# Altium schematic symbol library Transistor_FET.SchLib: 598 symbols (part 6 of 6)
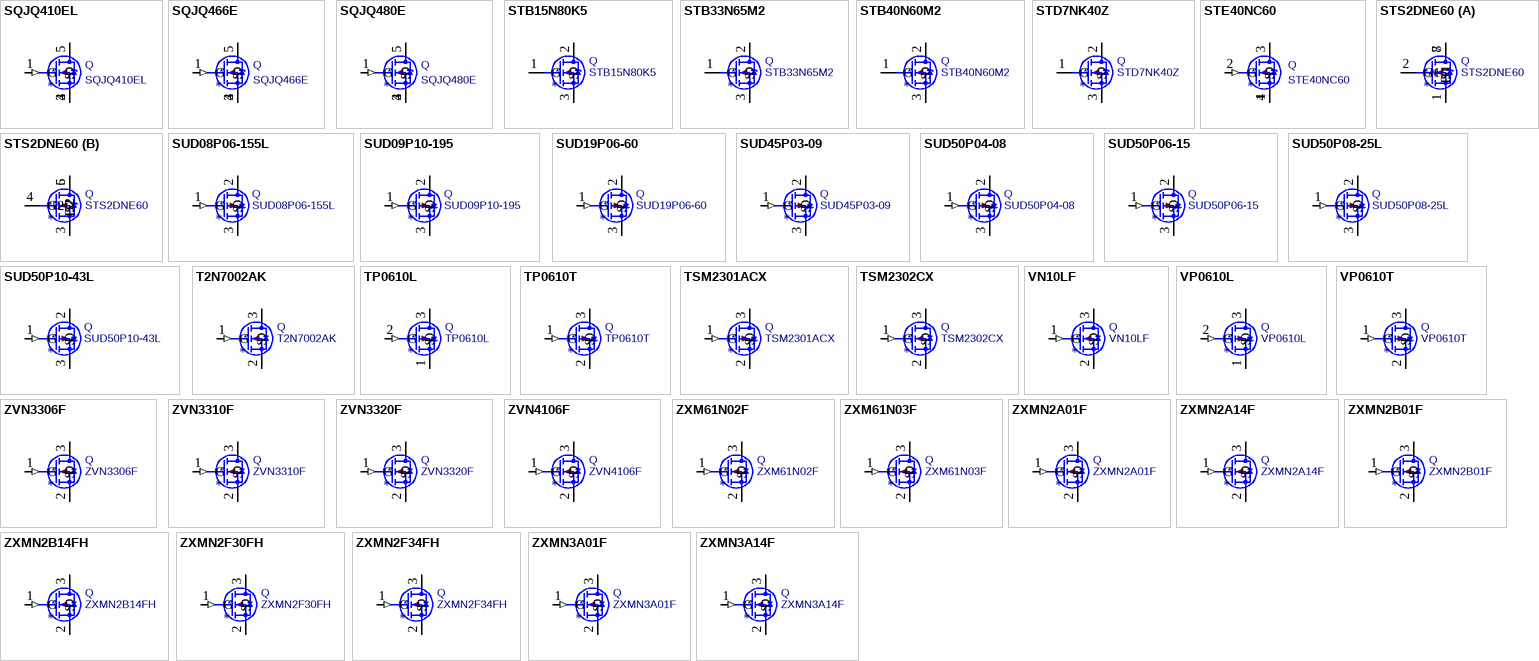
[diagram p21: symbols SQJQ410EL to ZXMN3A14F]

## SUD50P10-43L
designator *  value SUD50P10-43L  Reference: Q
-37A Id, -100V Vds, TrenchFET P-Channel Power MOSFET, 43mOhm Ron, 160nC Qg, -55 to 150 °C, TO-252-2; ki_fp_filters: TO?252*; Footprint: Package_TO_SOT_SMD:TO-252-2; Datasheet: https://www.vishay.com/docs/62504/sud50p10-43l-ge3.pdf; Description_: -37A Id, -100V Vds, TrenchFET P-Channel Power MOSFET, 43mOhm Ron, 160nC Qg, -55 to 150 °C, TO-252-2; ki_keywords: TrenchFET P-Channel Power MOSFET
pins: 1 G (in), 2 D, 3 S

## T2N7002AK
designator *  value T2N7002AK  Reference: Q
60V Vds, 0.2A Id, N-Channel MOSFET, SOT-23; ki_fp_filters: SOT?23*; Footprint: Package_TO_SOT_SMD:SOT-23; Datasheet: https://toshiba.semicon-storage.com/info/docget.jsp?did=29712&prodName=T2N7002AK; Description_: 60V Vds, 0.2A Id, N-Channel MOSFET, SOT-23; ki_keywords: N-Channel MOSFET
pins: 1 G (in), 2 S, 3 D

## TP0610L
designator *  value TP0610L  Reference: Q
-0.18A Id, -60V Vds, P-Channel MOSFET, TO-92; ki_fp_filters: TO?92L*; Footprint: Package_TO_SOT_THT:TO-92L_Inline; Datasheet: http://www.vishay.com/docs/70209/70209.pdf; Description_: -0.18A Id, -60V Vds, P-Channel MOSFET, TO-92; ki_keywords: P-Channel MOSFET
pins: 1 S, 2 G (in), 3 D

## TP0610T
designator *  value TP0610T  Reference: Q
-0.18A Id, -60V Vds, P-Channel MOSFET, SOT-23; ki_fp_filters: SOT?23*; Footprint: Package_TO_SOT_SMD:SOT-23; Datasheet: http://www.vishay.com/docs/70209/70209.pdf; Description_: -0.18A Id, -60V Vds, P-Channel MOSFET, SOT-23; ki_keywords: P-Channel MOSFET
pins: 1 G (in), 2 S, 3 D

## TSM2301ACX
designator *  value TSM2301ACX  Reference: Q
-2.8A Id, -20V Vds, P-Channel MOSFET, SOT-23; ki_fp_filters: SOT?23*; Footprint: Package_TO_SOT_SMD:SOT-23; Datasheet: https://services.taiwansemi.com/storage/resources/datasheet/TSM2301A_C15.pdf; Description_: -2.8A Id, -20V Vds, P-Channel MOSFET, SOT-23; ki_keywords: P-Channel MOSFET
pins: 1 G (in), 2 S, 3 D

## TSM2302CX
designator *  value TSM2302CX  Reference: Q
3.9A Id, 20V Vds, N-Channel MOSFET, SOT-23; ki_fp_filters: SOT?23*; Footprint: Package_TO_SOT_SMD:SOT-23; Datasheet: https://services.taiwansemi.com/storage/resources/datasheet/TSM2302CX_F2406.pdf; Description_: 3.9A Id, 20V Vds, N-Channel MOSFET, SOT-23; ki_keywords: N-Channel MOSFET
pins: 1 G (in), 2 S, 3 D

## VN10LF
designator *  value VN10LF  Reference: Q
0.15A Id, 60V Vds, N-Channel MOSFET, SOT-23; ki_fp_filters: SOT?23*; Footprint: Package_TO_SOT_SMD:SOT-23; Datasheet: http://www.diodes.com/assets/Datasheets/VN10LF.pdf; Description_: 0.15A Id, 60V Vds, N-Channel MOSFET, SOT-23; ki_keywords: N-Channel MOSFET
pins: 1 G (in), 2 S, 3 D

## VP0610L
designator *  value VP0610L  Reference: Q
-0.18A Id, -60V Vds, P-Channel MOSFET, TO-92; ki_fp_filters: TO?92L*; Footprint: Package_TO_SOT_THT:TO-92L_Inline; Datasheet: http://www.vishay.com/docs/70209/70209.pdf; Description_: -0.18A Id, -60V Vds, P-Channel MOSFET, TO-92; ki_keywords: P-Channel MOSFET
pins: 1 S, 2 G (in), 3 D

## VP0610T
designator *  value VP0610T  Reference: Q
-0.18A Id, -60V Vds, P-Channel MOSFET, SOT-23; ki_fp_filters: SOT?23*; Footprint: Package_TO_SOT_SMD:SOT-23; Datasheet: http://www.vishay.com/docs/70209/70209.pdf; Description_: -0.18A Id, -60V Vds, P-Channel MOSFET, SOT-23; ki_keywords: P-Channel MOSFET
pins: 1 G (in), 2 S, 3 D

## ZVN3306F
designator *  value ZVN3306F  Reference: Q
0.15A Id, 60V Vds, N-Channel MOSFET, SOT-23; ki_fp_filters: SOT?23*; Footprint: Package_TO_SOT_SMD:SOT-23; Datasheet: http://www.diodes.com/assets/Datasheets/ZVN3306F.pdf; Description_: 0.15A Id, 60V Vds, N-Channel MOSFET, SOT-23; ki_keywords: N-Channel MOSFET
pins: 1 G (in), 2 S, 3 D

## ZVN3310F
designator *  value ZVN3310F  Reference: Q
0.1A Id, 100V Vds, N-Channel MOSFET, SOT-23; ki_fp_filters: SOT?23*; Footprint: Package_TO_SOT_SMD:SOT-23; Datasheet: http://www.diodes.com/assets/Datasheets/ZVN3310F.pdf; Description_: 0.1A Id, 100V Vds, N-Channel MOSFET, SOT-23; ki_keywords: N-Channel MOSFET
pins: 1 G (in), 2 S, 3 D

## ZVN3320F
designator *  value ZVN3320F  Reference: Q
0.06A Id, 200V Vds, N-Channel MOSFET, SOT-23; ki_fp_filters: SOT?23*; Footprint: Package_TO_SOT_SMD:SOT-23; Datasheet: http://www.diodes.com/assets/Datasheets/ZVN3320F.pdf; Description_: 0.06A Id, 200V Vds, N-Channel MOSFET, SOT-23; ki_keywords: N-Channel MOSFET
pins: 1 G (in), 2 S, 3 D

## ZVN4106F
designator *  value ZVN4106F  Reference: Q
0.2A Id, 60V Vds, N-Channel MOSFET, SOT-23; ki_fp_filters: SOT?23*; Footprint: Package_TO_SOT_SMD:SOT-23; Datasheet: http://www.diodes.com/assets/Datasheets/ZVN4106F.pdf; Description_: 0.2A Id, 60V Vds, N-Channel MOSFET, SOT-23; ki_keywords: N-Channel MOSFET
pins: 1 G (in), 2 S, 3 D

## ZXM61N02F
designator *  value ZXM61N02F  Reference: Q
1.7A Id, 20V Vds, N-Channel MOSFET, SOT-23; ki_fp_filters: SOT?23*; Footprint: Package_TO_SOT_SMD:SOT-23; Datasheet: http://www.diodes.com/assets/Datasheets/ZXM61N02F.pdf; Description_: 1.7A Id, 20V Vds, N-Channel MOSFET, SOT-23; ki_keywords: N-Channel MOSFET
pins: 1 G (in), 2 S, 3 D

## ZXM61N03F
designator *  value ZXM61N03F  Reference: Q
1.4A Id, 30V Vds, N-Channel MOSFET, SOT-23; ki_fp_filters: SOT?23*; Footprint: Package_TO_SOT_SMD:SOT-23; Datasheet: http://www.diodes.com/assets/Datasheets/ZXM61N03F.pdf; Description_: 1.4A Id, 30V Vds, N-Channel MOSFET, SOT-23; ki_keywords: N-Channel MOSFET
pins: 1 G (in), 2 S, 3 D

## ZXMN2A01F
designator *  value ZXMN2A01F  Reference: Q
2.2A Id, 20V Vds, N-Channel MOSFET, SOT-23; ki_fp_filters: SOT?23*; Footprint: Package_TO_SOT_SMD:SOT-23; Datasheet: http://www.diodes.com/assets/Datasheets/ZXMN2A01F.pdf; Description_: 2.2A Id, 20V Vds, N-Channel MOSFET, SOT-23; ki_keywords: N-Channel MOSFET
pins: 1 G (in), 2 S, 3 D

## ZXMN2A14F
designator *  value ZXMN2A14F  Reference: Q
4.1A Id, 20V Vds, N-Channel MOSFET, SOT-23; ki_fp_filters: SOT?23*; Footprint: Package_TO_SOT_SMD:SOT-23; Datasheet: http://www.diodes.com/assets/Datasheets/ZXMN2A14F.pdf; Description_: 4.1A Id, 20V Vds, N-Channel MOSFET, SOT-23; ki_keywords: N-Channel MOSFET
pins: 1 G (in), 2 S, 3 D

## ZXMN2B01F
designator *  value ZXMN2B01F  Reference: Q
2.4A Id, 20V Vds, N-Channel MOSFET, SOT-23; ki_fp_filters: SOT?23*; Footprint: Package_TO_SOT_SMD:SOT-23; Datasheet: http://www.diodes.com/assets/Datasheets/ZXMN2B01F.pdf; Description_: 2.4A Id, 20V Vds, N-Channel MOSFET, SOT-23; ki_keywords: N-Channel MOSFET
pins: 1 G (in), 2 S, 3 D

## ZXMN2B14FH
designator *  value ZXMN2B14FH  Reference: Q
4.3A Id, 20V Vds, N-Channel MOSFET, SOT-23; ki_fp_filters: SOT?23*; Footprint: Package_TO_SOT_SMD:SOT-23; Datasheet: http://www.diodes.com/assets/Datasheets/ZXMN2B14FH.pdf; Description_: 4.3A Id, 20V Vds, N-Channel MOSFET, SOT-23; ki_keywords: N-Channel MOSFET
pins: 1 G (in), 2 S, 3 D

## ZXMN2F30FH
designator *  value ZXMN2F30FH  Reference: Q
4.9A Id, 20V Vds, N-Channel MOSFET, SOT-23; ki_fp_filters: SOT?23*; Footprint: Package_TO_SOT_SMD:SOT-23; Datasheet: http://www.diodes.com/assets/Datasheets/ZXMN2F30FH.pdf; Description_: 4.9A Id, 20V Vds, N-Channel MOSFET, SOT-23; ki_keywords: N-Channel MOSFET
pins: 1 G (in), 2 S, 3 D

## ZXMN2F34FH
designator *  value ZXMN2F34FH  Reference: Q
4A Id, 20V Vds, N-Channel MOSFET, SOT-23; ki_fp_filters: SOT?23*; Footprint: Package_TO_SOT_SMD:SOT-23; Datasheet: http://www.diodes.com/assets/Datasheets/ZXMN2F34FH.pdf; Description_: 4A Id, 20V Vds, N-Channel MOSFET, SOT-23; ki_keywords: N-Channel MOSFET
pins: 1 G (in), 2 S, 3 D

## ZXMN3A01F
designator *  value ZXMN3A01F  Reference: Q
2A Id, 30V Vds, N-Channel MOSFET, SOT-23; ki_fp_filters: SOT?23*; Footprint: Package_TO_SOT_SMD:SOT-23; Datasheet: http://www.diodes.com/assets/Datasheets/ZXMN3A01F.pdf; Description_: 2A Id, 30V Vds, N-Channel MOSFET, SOT-23; ki_keywords: N-Channel MOSFET
pins: 1 G (in), 2 S, 3 D

## ZXMN3A14F
designator *  value ZXMN3A14F  Reference: Q
3.2A Id, 30V Vds, N-Channel MOSFET, SOT-23; ki_fp_filters: SOT?23*; Footprint: Package_TO_SOT_SMD:SOT-23; Datasheet: http://www.diodes.com/assets/Datasheets/ZXMN3A14F.pdf; Description_: 3.2A Id, 30V Vds, N-Channel MOSFET, SOT-23; ki_keywords: N-Channel MOSFET
pins: 1 G (in), 2 S, 3 D

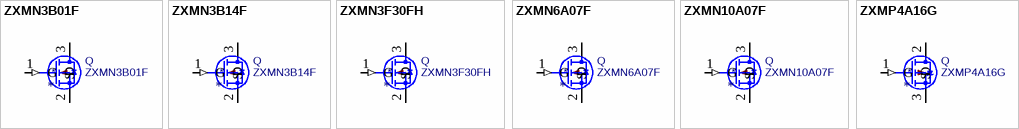
[diagram p16: symbols ZXMN3B01F to ZXMP4A16G]

## ZXMN3B01F
designator *  value ZXMN3B01F  Reference: Q
2A Id, 30V Vds, N-Channel MOSFET, SOT-23; ki_fp_filters: SOT?23*; Footprint: Package_TO_SOT_SMD:SOT-23; Datasheet: http://www.diodes.com/assets/Datasheets/ZXMN3B01F.pdf; Description_: 2A Id, 30V Vds, N-Channel MOSFET, SOT-23; ki_keywords: N-Channel MOSFET
pins: 1 G (in), 2 S, 3 D

## ZXMN3B14F
designator *  value ZXMN3B14F  Reference: Q
3.5A Id, 30V Vds, N-Channel MOSFET, SOT-23; ki_fp_filters: SOT?23*; Footprint: Package_TO_SOT_SMD:SOT-23; Datasheet: http://www.diodes.com/assets/Datasheets/ZXMN3B14F.pdf; Description_: 3.5A Id, 30V Vds, N-Channel MOSFET, SOT-23; ki_keywords: N-Channel MOSFET
pins: 1 G (in), 2 S, 3 D

## ZXMN3F30FH
designator *  value ZXMN3F30FH  Reference: Q
4.6A Id, 30V Vds, N-Channel MOSFET, SOT-23; ki_fp_filters: SOT?23*; Footprint: Package_TO_SOT_SMD:SOT-23; Datasheet: http://www.diodes.com/assets/Datasheets/ZXMN3F30FH.pdf; Description_: 4.6A Id, 30V Vds, N-Channel MOSFET, SOT-23; ki_keywords: N-Channel MOSFET
pins: 1 G (in), 2 S, 3 D

## ZXMN6A07F
designator *  value ZXMN6A07F  Reference: Q
1.4A Id, 60V Vds, N-Channel MOSFET, SOT-23; ki_fp_filters: SOT?23*; Footprint: Package_TO_SOT_SMD:SOT-23; Datasheet: http://www.diodes.com/assets/Datasheets/ZXMN6A07F.pdf; Description_: 1.4A Id, 60V Vds, N-Channel MOSFET, SOT-23; ki_keywords: N-Channel MOSFET
pins: 1 G (in), 2 S, 3 D

## ZXMN10A07F
designator *  value ZXMN10A07F  Reference: Q
0.76A Id, 100V Vds, N-Channel MOSFET, SOT-23; ki_fp_filters: SOT?23*; Footprint: Package_TO_SOT_SMD:SOT-23; Datasheet: http://www.diodes.com/assets/Datasheets/ZXMN10A07F.pdf; Description_: 0.76A Id, 100V Vds, N-Channel MOSFET, SOT-23; ki_keywords: N-Channel MOSFET
pins: 1 G (in), 2 S, 3 D

## ZXMP4A16G
designator *  value ZXMP4A16G  Reference: Q
-6.4A Id, -40V Vds, P-Channel MOSFET, SOT-223; ki_fp_filters: SOT?223*; Footprint: Package_TO_SOT_SMD:SOT-223-3_TabPin2; Datasheet: https://www.diodes.com/assets/Datasheets/ZXMP4A16G.pdf; Description_: -6.4A Id, -40V Vds, P-Channel MOSFET, SOT-223; ki_keywords: P-Channel MOSFET
pins: 1 G (in), 2 D, 3 S